# Altium integrated library Agilent Optoelectronic LED.IntLib: 357 symbols (part 4 of 6)
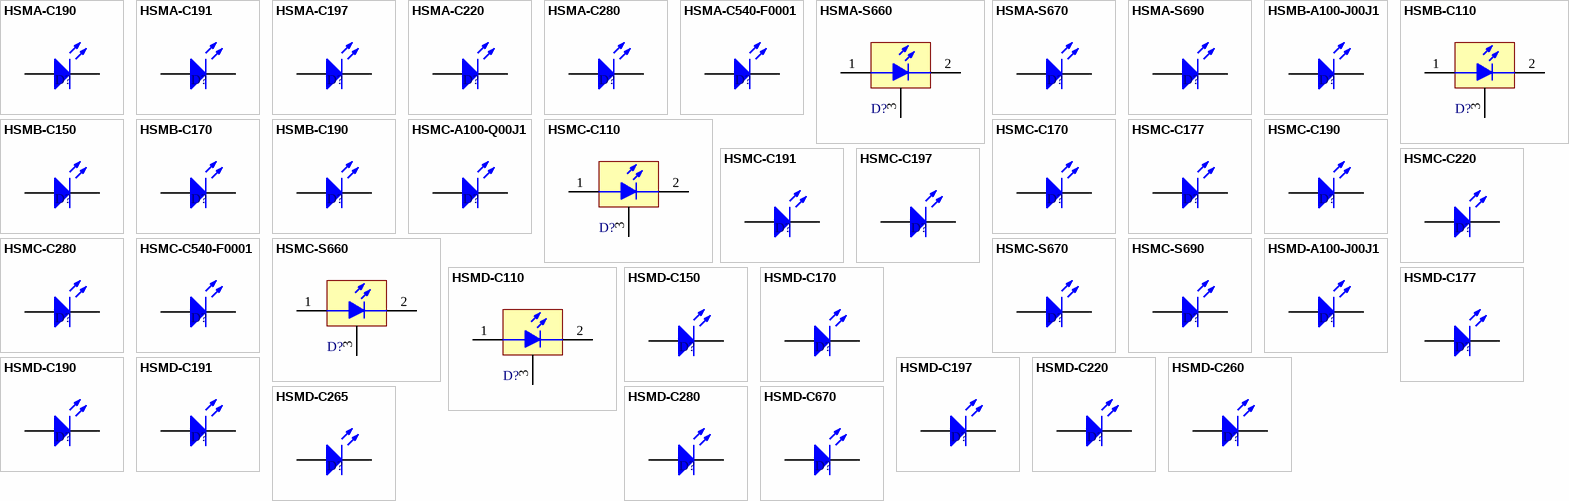
[diagram p11: symbols HSMA-C190 to HSMD-C670]

## HSMA-C190
designator D?
High Performance Chip LED, Amber; LuminousIntensity: 25mcd (Minimum).; PCB_Layout: Complies with manufacturer's recommendation.; Published: 11-Dec-2002; DatasheetDocument: 11-Mar-2002; PackageDocument: 11-Mar-2002; PackageReference: 1.6X0.8X0.8; Publisher: Altium Limited; LED_Colour: Amber; ComponentLink1Description: Manufacturer Link; ComponentLink1URL: http://www.agilent.com/; ComponentLink2Description: Datasheet; ComponentLink2URL: http://cp.literature.agilent.com/litweb/pdf/5988-5891EN.pdf
footprint 1.6X0.8X0.8 (SM LED; 2 Flat Leads)
simulation model Agl_HSMAC191 (Diode)
signal-integrity model LED
pins: 1 A, 2 K

## HSMA-C191
designator D?
High Performance Chip LED, Amber; LuminousIntensity: 25mcd (Minimum).; PCB_Layout: Complies with manufacturer's recommendation.; Published: 11-Dec-2002; DatasheetDocument: 11-Mar-2002; PackageDocument: 11-Mar-2002; PackageReference: 1.6X0.8X0.6; Publisher: Altium Limited; LED_Colour: Amber; ComponentLink1Description: Manufacturer Link; ComponentLink1URL: http://www.agilent.com/; ComponentLink2Description: Datasheet; ComponentLink2URL: http://cp.literature.agilent.com/litweb/pdf/5988-5891EN.pdf
footprint 1.6X0.8X0.6 (SM LED; 2 Flat Leads)
simulation model Agl_HSMAC191 (Diode)
signal-integrity model LED
pins: 1 A, 2 K

## HSMA-C197
designator D?
Low Profile Chip LED, Yellow; LuminousIntensity: 2.5mcd (Minimum).; PCB_Layout: Complies with manufacturer's recommendation.; Published: 11-Dec-2002; DatasheetDocument: 27-Jan-2002; PackageDocument: 27-Jan-2002; PackageReference: 1.6X0.8X0.4; Publisher: Altium Limited; LED_Colour: Yellow; ComponentLink1Description: Manufacturer Link; ComponentLink1URL: http://www.agilent.com/; ComponentLink2Description: Datasheet; ComponentLink2URL: http://cp.literature.agilent.com/litweb/pdf/5988-5501EN.pdf
footprint 1.6X0.8X0.4 (SM LED; 2 Flat Leads)
simulation model Agl_HSMAC177 (Diode)
signal-integrity model LED
pins: 1 A, 2 K

## HSMA-C220
designator D?
High Performance Chip LED, Amber; LuminousIntensity: 63mcd (Minimum).; PCB_Layout: Complies with manufacturer's recommendation.; Published: 11-Dec-2002; DatasheetDocument: 30-Apr-2002; PackageDocument: 30-Apr-2002; PackageReference: 2.0X1.25X1.2; Publisher: Altium Limited; LED_Colour: Amber; ComponentLink1Description: Manufacturer Link; ComponentLink1URL: http://www.agilent.com/; ComponentLink2Description: Datasheet; ComponentLink2URL: http://cp.literature.agilent.com/litweb/pdf/5988-6549EN.pdf
footprint 2.0X1.25X1.2 (SM LED; 2 Flat Leads)
simulation model Agl_HSMAC220 (Diode)
signal-integrity model LED
pins: 1 A, 2 K

## HSMA-C280
designator D?
Miniature Chip LED, Amber; LuminousIntensity: 25mcd (Minimum).; PCB_Layout: Complies with manufacturer's recommendation.; Published: 11-Dec-2002; DatasheetDocument: 7-Mar-2002; PackageDocument: 07-Mar-2002; PackageReference: 1.0X0.5X0.4; Publisher: Altium Limited; LED_Colour: Amber; ComponentLink1Description: Manufacturer Link; ComponentLink1URL: http://www.agilent.com/; ComponentLink2Description: Datasheet; ComponentLink2URL: http://cp.literature.agilent.com/litweb/pdf/5988-5890EN.pdf
footprint 1.0X0.5X0.4 (SM LED; 2 Flat Leads)
simulation model Agl_HSMAC177 (Diode)
signal-integrity model LED
pins: 1 A, 2 K

## HSMA-C540-F0001
designator D?
Top Mount AS AlInGaP Amber Oval Lens High Brightness; LuminousIntensity: 96mcd (Minimum).; PCB_Layout: Complies with manufacturer's recommendation.; Published: 11-Dec-2002; DatasheetDocument: 7-Mar-2002; PackageDocument: 30-Apr-2002; PackageReference: 2.0X1.25X1.2; Publisher: Altium Limited; LED_Colour: Amber; ComponentLink1Description: Manufacturer Link; ComponentLink1URL: http://www.agilent.com/; ComponentLink2Description: Datasheet; ComponentLink2URL: http://cp.literature.agilent.com/litweb/pdf/5988-5794EN.pdf
footprint 2.0X1.25X1.2 (SM LED; 2 Flat Leads)
simulation model Agl_HSMAC540 (Diode)
signal-integrity model LED
pins: 1 A, 2 K

## HSMA-S660
designator D?
Right Angle SMT Chip LED, Amber; LuminousIntensity: 16mcd (Minimum).; PCB_Layout: Complies with manufacturer's recommendation.; Published: 11-Dec-2002; DatasheetDocument: 29-Oct-2001; PackageDocument: 29-Oct-2001; PackageReference: NA; Publisher: Altium Limited; LED_Colour: Amber; ComponentLink1Description: Manufacturer Link; ComponentLink1URL: http://www.agilent.com/; ComponentLink2Description: Datasheet; ComponentLink2URL: http://cp.literature.agilent.com/litweb/pdf/5988-4445EN.pdf
footprint NA (SM Right-Angle Mount LED; 3 Leads)
simulation model Agl_HSMAC191 (Diode)
pins: 1 A, 2 K, 3 Mount

## HSMA-S670
designator D?
SMT Top Mount Chip LED, Amber; LuminousIntensity: 16mcd (Minimum).; PCB_Layout: Complies with manufacturer's recommendation.; Published: 11-Dec-2002; DatasheetDocument: 29-Oct-2001; PackageDocument: 29-Oct-2001; PackageReference: 2.0X1.25X0.8; Publisher: Altium Limited; LED_Colour: Amber; ComponentLink1Description: Manufacturer Link; ComponentLink1URL: http://www.agilent.com/; ComponentLink2Description: Datasheet; ComponentLink2URL: http://cp.literature.agilent.com/litweb/pdf/5988-4445EN.pdf
footprint 2.0X1.25X0.8 (SM LED; 2 Flat Leads)
simulation model Agl_HSMAC191 (Diode)
signal-integrity model LED
pins: 1 A, 2 K

## HSMA-S690
designator D?
SMT Top Mount Chip LED, Amber; LuminousIntensity: 16mcd (Minimum).; PCB_Layout: Complies with manufacturer's recommendation.; Published: 11-Dec-2002; DatasheetDocument: 29-Oct-2001; PackageDocument: 29-Oct-2001; PackageReference: 1.6X0.8X0.7; Publisher: Altium Limited; LED_Colour: Amber; ComponentLink1Description: Manufacturer Link; ComponentLink1URL: http://www.agilent.com/; ComponentLink2Description: Datasheet; ComponentLink2URL: http://cp.literature.agilent.com/litweb/pdf/5988-4445EN.pdf
footprint 1.6X0.8X0.7 (SM LED; 2 Flat Leads)
simulation model Agl_HSMAC191 (Diode)
signal-integrity model LED
pins: 1 A, 2 K

## HSMB-A100-J00J1
designator D?
Surface Mount LED Indicator, Blue; LuminousIntensity: 4mcd (Minimum).; PCB_Layout: Complies with manufacturer's recommendation.; Published: 11-Dec-2002; DatasheetDocument: 16-Apr-2002; PackageDocument: 16-Apr-2002; PackageReference: 3.5X2.8X1.9; Publisher: Altium Limited; LED_Colour: Blue; ComponentLink1Description: Manufacturer Link; ComponentLink1URL: http://www.agilent.com/; ComponentLink2Description: Datasheet; ComponentLink2URL: http://cp.literature.agilent.com/litweb/pdf/5988-6546EN.pdf
footprint 3.5X2.8X1.9 (SM LED; 2 C-Bend Leads; Body 3.5 x 2.8 x 1.9 mm, inc leads (LxWxH typ))
simulation model Agl_HSMBA100 (Diode)
signal-integrity model LED
pins: 1 A, 2 K

## HSMB-C110
designator D?
Blue Surface Mount Chip LED, Blue; LuminousIntensity: 1.6mcd (Minimum).; PCB_Layout: Complies with manufacturer's recommendation.; Published: 11-Dec-2002; DatasheetDocument: 26-Feb-2002; PackageDocument: 11-Mar-2002; PackageReference: 3.2X1.0X1.5; Publisher: Altium Limited; LED_Colour: Blue; ComponentLink1Description: Manufacturer Link; ComponentLink1URL: http://www.agilent.com/; ComponentLink2Description: Datasheet; ComponentLink2URL: http://cp.literature.agilent.com/litweb/pdf/5988-5211EN.pdf
footprint 3.2X1.0X1.5 (SM Right-Angle Mount LED; 3 Leads; Body 3.2 x 1.0 x 1.5 mm (LxWxH))
simulation model Agl_HSMBC110 (Diode)
pins: 1 A, 2 K, 3 Mount

## HSMB-C150
designator D?
Blue Surface Mount Chip LED, Blue; LuminousIntensity: 1.6mcd (Minimum).; PCB_Layout: Complies with manufacturer's recommendation.; Published: 11-Dec-2002; DatasheetDocument: 26-Feb-2002; PackageDocument: 26-Feb-2002; PackageReference: 3.2X1.6X1.1; Publisher: Altium Limited; LED_Colour: Blue; ComponentLink1Description: Manufacturer Link; ComponentLink1URL: http://www.agilent.com/; ComponentLink2Description: Datasheet; ComponentLink2URL: http://cp.literature.agilent.com/litweb/pdf/5988-5211EN.pdf
footprint 3.2X1.6X1.1 (SM LED; 2 Flat Leads)
simulation model Agl_HSMBC110 (Diode)
signal-integrity model LED
pins: 1 A, 2 K

## HSMB-C170
designator D?
Blue Surface Mount Chip LED, Blue; LuminousIntensity: 1.6mcd (Minimum).; PCB_Layout: Complies with manufacturer's recommendation.; Published: 11-Dec-2002; DatasheetDocument: 26-Feb-2002; PackageDocument: 29-Oct-2001; PackageReference: 2.0X1.25X0.8; Publisher: Altium Limited; LED_Colour: Blue; ComponentLink1Description: Manufacturer Link; ComponentLink1URL: http://www.agilent.com/; ComponentLink2Description: Datasheet; ComponentLink2URL: http://cp.literature.agilent.com/litweb/pdf/5988-5211EN.pdf
footprint 2.0X1.25X0.8 (SM LED; 2 Flat Leads)
simulation model Agl_HSMBC110 (Diode)
signal-integrity model LED
pins: 1 A, 2 K

## HSMB-C190
designator D?
Blue Surface Mount Chip LED, Blue; LuminousIntensity: 1.6mcd (Minimum).; PCB_Layout: Complies with manufacturer's recommendation.; Published: 11-Dec-2002; DatasheetDocument: 26-Feb-2002; PackageDocument: 11-Mar-2002; PackageReference: 1.6X0.8X0.8; Publisher: Altium Limited; LED_Colour: Blue; ComponentLink1Description: Manufacturer Link; ComponentLink1URL: http://www.agilent.com/; ComponentLink2Description: Datasheet; ComponentLink2URL: http://cp.literature.agilent.com/litweb/pdf/5988-5211EN.pdf
footprint 1.6X0.8X0.8 (SM LED; 2 Flat Leads)
simulation model Agl_HSMBC110 (Diode)
signal-integrity model LED
pins: 1 A, 2 K

## HSMC-A100-Q00J1
designator D?
Surface Mount LED Indicator, Red; LuminousIntensity: 63mcd (Minimum).; PCB_Layout: Complies with manufacturer's recommendation.; Published: 11-Dec-2002; DatasheetDocument: 16-Apr-2002; PackageDocument: 16-Apr-2002; PackageReference: 3.5X2.8X1.9; Publisher: Altium Limited; LED_Colour: Red; ComponentLink1Description: Manufacturer Link; ComponentLink1URL: http://www.agilent.com/; ComponentLink2Description: Datasheet; ComponentLink2URL: http://cp.literature.agilent.com/litweb/pdf/5988-6546EN.pdf
footprint 3.5X2.8X1.9 (SM LED; 2 C-Bend Leads; Body 3.5 x 2.8 x 1.9 mm, inc leads (LxWxH typ))
simulation model Agl_HSMAC191 (Diode)
signal-integrity model LED
pins: 1 A, 2 K

## HSMC-C110
designator D?
High Performance Chip LED, Red; LuminousIntensity: 25mcd (Minimum).; PCB_Layout: Complies with manufacturer's recommendation.; Published: 11-Dec-2002; DatasheetDocument: 11-Mar-2002; PackageDocument: 11-Mar-2002; PackageReference: 3.2X1.0X1.5; Publisher: Altium Limited; LED_Colour: Red; ComponentLink1Description: Manufacturer Link; ComponentLink1URL: http://www.agilent.com/; ComponentLink2Description: Datasheet; ComponentLink2URL: http://cp.literature.agilent.com/litweb/pdf/5988-5891EN.pdf
footprint 3.2X1.0X1.5 (SM Right-Angle Mount LED; 3 Leads; Body 3.2 x 1.0 x 1.5 mm (LxWxH))
simulation model Agl_HSMAC191 (Diode)
pins: 1 A, 2 K, 3 Mount

## HSMC-C170
designator D?
High Performance Chip LED, Red; LuminousIntensity: 25mcd (Minimum).; PCB_Layout: Complies with manufacturer's recommendation.; Published: 11-Dec-2002; DatasheetDocument: 11-Mar-2002; PackageDocument: 29-Oct-2001; PackageReference: 2.0X1.25X0.8; Publisher: Altium Limited; LED_Colour: Red; ComponentLink1Description: Manufacturer Link; ComponentLink1URL: http://www.agilent.com/; ComponentLink2Description: Datasheet; ComponentLink2URL: http://cp.literature.agilent.com/litweb/pdf/5988-5891EN.pdf
footprint 2.0X1.25X0.8 (SM LED; 2 Flat Leads)
simulation model Agl_HSMAC191 (Diode)
signal-integrity model LED
pins: 1 A, 2 K

## HSMC-C177
designator D?
Low Profile Chip LED, Red; LuminousIntensity: 25mcd (Minimum).; PCB_Layout: Complies with manufacturer's recommendation.; Published: 11-Dec-2002; DatasheetDocument: 27-Jan-2002; PackageDocument: 27-Jan-2002; PackageReference: 2.0X1.25X0.4; Publisher: Altium Limited; LED_Colour: Red; ComponentLink1Description: Manufacturer Link; ComponentLink1URL: http://www.agilent.com/; ComponentLink2Description: Datasheet; ComponentLink2URL: http://cp.literature.agilent.com/litweb/pdf/5988-5501EN.pdf
footprint 2.0X1.25X0.4 (SM LED; 2 Flat Leads)
simulation model Agl_HSMCC177 (Diode)
signal-integrity model LED
pins: 1 A, 2 K

## HSMC-C190
designator D?
High Performance Chip LED, Red; LuminousIntensity: 25mcd (Minimum).; PCB_Layout: Complies with manufacturer's recommendation.; Published: 11-Dec-2002; DatasheetDocument: 11-Mar-2002; PackageDocument: 11-Mar-2002; PackageReference: 1.6X0.8X0.8; Publisher: Altium Limited; LED_Colour: Red; ComponentLink1Description: Manufacturer Link; ComponentLink1URL: http://www.agilent.com/; ComponentLink2Description: Datasheet; ComponentLink2URL: http://cp.literature.agilent.com/litweb/pdf/5988-5891EN.pdf
footprint 1.6X0.8X0.8 (SM LED; 2 Flat Leads)
simulation model Agl_HSMAC191 (Diode)
signal-integrity model LED
pins: 1 A, 2 K

## HSMC-C191
designator D?
High Performance Chip LED, Red; LuminousIntensity: 25mcd (Minimum).; PCB_Layout: Complies with manufacturer's recommendation.; Published: 11-Dec-2002; DatasheetDocument: 11-Mar-2002; PackageDocument: 11-Mar-2002; PackageReference: 1.6X0.8X0.6; Publisher: Altium Limited; LED_Colour: Red; ComponentLink1Description: Manufacturer Link; ComponentLink1URL: http://www.agilent.com/; ComponentLink2Description: Datasheet; ComponentLink2URL: http://cp.literature.agilent.com/litweb/pdf/5988-5891EN.pdf
footprint 1.6X0.8X0.6 (SM LED; 2 Flat Leads)
simulation model Agl_HSMAC191 (Diode)
signal-integrity model LED
pins: 1 A, 2 K

## HSMC-C197
designator D?
Low Profile Chip LED, Red; LuminousIntensity: 25mcd (Minimum).; PCB_Layout: Complies with manufacturer's recommendation.; Published: 11-Dec-2002; DatasheetDocument: 27-Jan-2002; PackageDocument: 27-Jan-2002; PackageReference: 1.6X0.8X0.4; Publisher: Altium Limited; LED_Colour: Red; ComponentLink1Description: Manufacturer Link; ComponentLink1URL: http://www.agilent.com/; ComponentLink2Description: Datasheet; ComponentLink2URL: http://cp.literature.agilent.com/litweb/pdf/5988-5501EN.pdf
footprint 1.6X0.8X0.4 (SM LED; 2 Flat Leads)
simulation model Agl_HSMCC177 (Diode)
signal-integrity model LED
pins: 1 A, 2 K

## HSMC-C220
designator D?
High Performance Chip LED, Red; LuminousIntensity: 63mcd (Minimum).; PCB_Layout: Complies with manufacturer's recommendation.; Published: 11-Dec-2002; DatasheetDocument: 30-Apr-2002; PackageDocument: 30-Apr-2002; PackageReference: 2.0X1.25X1.2; Publisher: Altium Limited; LED_Colour: Red; ComponentLink1Description: Manufacturer Link; ComponentLink1URL: http://www.agilent.com/; ComponentLink2Description: Datasheet; ComponentLink2URL: http://cp.literature.agilent.com/litweb/pdf/5988-6549EN.pdf
footprint 2.0X1.25X1.2 (SM LED; 2 Flat Leads)
simulation model Agl_HSMAC220 (Diode)
signal-integrity model LED
pins: 1 A, 2 K

## HSMC-C280
designator D?
Miniature Chip LED, Red; LuminousIntensity: 25mcd (Minimum).; PCB_Layout: Complies with manufacturer's recommendation.; Published: 11-Dec-2002; DatasheetDocument: 7-Mar-2002; PackageDocument: 07-Mar-2002; PackageReference: 1.0X0.5X0.4; Publisher: Altium Limited; LED_Colour: Red; ComponentLink1Description: Manufacturer Link; ComponentLink1URL: http://www.agilent.com/; ComponentLink2Description: Datasheet; ComponentLink2URL: http://cp.literature.agilent.com/litweb/pdf/5988-5890EN.pdf
footprint 1.0X0.5X0.4 (SM LED; 2 Flat Leads)
simulation model Agl_HSMCC177 (Diode)
signal-integrity model LED
pins: 1 A, 2 K

## HSMC-C540-F0001
designator D?
Top Mount AS AlInGaP Red Oval Lens High Brightness; LuminousIntensity: 96mcd (Minimum).; PCB_Layout: Complies with manufacturer's recommendation.; Published: 11-Dec-2002; DatasheetDocument: 7-Mar-2002; PackageDocument: 30-Apr-2002; PackageReference: 2.0X1.25X1.2; Publisher: Altium Limited; LED_Colour: Red; ComponentLink1Description: Manufacturer Link; ComponentLink1URL: http://www.agilent.com/; ComponentLink2Description: Datasheet; ComponentLink2URL: http://cp.literature.agilent.com/litweb/pdf/5988-5794EN.pdf
footprint 2.0X1.25X1.2 (SM LED; 2 Flat Leads)
simulation model Agl_HSMAC540 (Diode)
signal-integrity model LED
pins: 1 A, 2 K

## HSMC-S660
designator D?
Right Angle SMT Chip LED, Red; LuminousIntensity: 16mcd (Minimum).; PCB_Layout: Complies with manufacturer's recommendation.; Published: 11-Dec-2002; DatasheetDocument: 29-Oct-2001; PackageDocument: 29-Oct-2001; PackageReference: 3.0X1.0X2.0W; Publisher: Altium Limited; LED_Colour: Red; ComponentLink1Description: Manufacturer Link; ComponentLink1URL: http://www.agilent.com/; ComponentLink2Description: Datasheet; ComponentLink2URL: http://cp.literature.agilent.com/litweb/pdf/5988-4445EN.pdf
footprint 3.0X1.0X2.0W (SM Right-Angle Mount LED; 3 Leads; Body 3.0 x 1.0 x 2.0 mm (LxWxH))
simulation model Agl_HSMAC191 (Diode)
pins: 1 A, 2 K, 3 Mount

## HSMC-S670
designator D?
SMT Top Mount Chip LED, Red; LuminousIntensity: 16mcd (Minimum).; PCB_Layout: Complies with manufacturer's recommendation.; Published: 11-Dec-2002; DatasheetDocument: 29-Oct-2001; PackageDocument: 29-Oct-2001; PackageReference: 2.0X1.25X0.8; Publisher: Altium Limited; LED_Colour: Red; ComponentLink1Description: Manufacturer Link; ComponentLink1URL: http://www.agilent.com/; ComponentLink2Description: Datasheet; ComponentLink2URL: http://cp.literature.agilent.com/litweb/pdf/5988-4445EN.pdf
footprint 2.0X1.25X0.8 (SM LED; 2 Flat Leads)
simulation model Agl_HSMAC191 (Diode)
signal-integrity model LED
pins: 1 A, 2 K

## HSMC-S690
designator D?
SMT Top Mount Chip LED, Red; LuminousIntensity: 16mcd (Minimum).; PCB_Layout: Complies with manufacturer's recommendation.; Published: 11-Dec-2002; DatasheetDocument: 29-Oct-2001; PackageDocument: 29-Oct-2001; PackageReference: 1.6X0.8X0.7; Publisher: Altium Limited; LED_Colour: Red; ComponentLink1Description: Manufacturer Link; ComponentLink1URL: http://www.agilent.com/; ComponentLink2Description: Datasheet; ComponentLink2URL: http://cp.literature.agilent.com/litweb/pdf/5988-4445EN.pdf
footprint 1.6X0.8X0.7 (SM LED; 2 Flat Leads)
simulation model Agl_HSMAC191 (Diode)
signal-integrity model LED
pins: 1 A, 2 K

## HSMD-A100-J00J1
designator D?
Surface Mount LED Indicator, Orange; LuminousIntensity: 4mcd (Minimum).; PCB_Layout: Complies with manufacturer's recommendation.; Published: 11-Dec-2002; DatasheetDocument: 16-Apr-2002; PackageDocument: 16-Apr-2002; PackageReference: 3.5X2.8X1.9; Publisher: Altium Limited; LED_Colour: Orange; ComponentLink1Description: Manufacturer Link; ComponentLink1URL: http://www.agilent.com/; ComponentLink2Description: Datasheet; ComponentLink2URL: http://cp.literature.agilent.com/litweb/pdf/5988-6546EN.pdf
footprint 3.5X2.8X1.9 (SM LED; 2 C-Bend Leads; Body 3.5 x 2.8 x 1.9 mm, inc leads (LxWxH typ))
simulation model Agl_HSMDC110 (Diode)
signal-integrity model LED
pins: 1 A, 2 K

## HSMD-C110
designator D?
Surface Mount Chip LED, Orange; LuminousIntensity: 2.5mcd (Minimum).; PCB_Layout: Complies with manufacturer's recommendation.; Published: 11-Dec-2002; DatasheetDocument: 30-Apr-2002; PackageDocument: 11-Mar-2002; PackageReference: 3.2X1.0X1.5; Publisher: Altium Limited; LED_Colour: Orange; ComponentLink1Description: Manufacturer Link; ComponentLink1URL: http://www.agilent.com/; ComponentLink2Description: Datasheet; ComponentLink2URL: http://cp.literature.agilent.com/litweb/pdf/5988-6271EN.pdf
footprint 3.2X1.0X1.5 (SM Right-Angle Mount LED; 3 Leads; Body 3.2 x 1.0 x 1.5 mm (LxWxH))
simulation model Agl_HSMDC110 (Diode)
pins: 1 A, 2 K, 3 Mount

## HSMD-C150
designator D?
Surface Mount Chip LED, Orange; LuminousIntensity: 2.5mcd (Minimum).; PCB_Layout: Complies with manufacturer's recommendation.; Published: 11-Dec-2002; DatasheetDocument: 30-Apr-2002; PackageDocument: 26-Feb-2002; PackageReference: 3.2X1.6X1.1; Publisher: Altium Limited; LED_Colour: Orange; ComponentLink1Description: Manufacturer Link; ComponentLink1URL: http://www.agilent.com/; ComponentLink2Description: Datasheet; ComponentLink2URL: http://cp.literature.agilent.com/litweb/pdf/5988-6271EN.pdf
footprint 3.2X1.6X1.1 (SM LED; 2 Flat Leads)
simulation model Agl_HSMDC110 (Diode)
signal-integrity model LED
pins: 1 A, 2 K

## HSMD-C170
designator D?
Surface Mount Chip LED, Orange; LuminousIntensity: 2.5mcd (Minimum).; PCB_Layout: Complies with manufacturer's recommendation.; Published: 11-Dec-2002; DatasheetDocument: 30-Apr-2002; PackageDocument: 29-Oct-2001; PackageReference: 2.0X1.25X0.8; Publisher: Altium Limited; LED_Colour: Orange; ComponentLink1Description: Manufacturer Link; ComponentLink1URL: http://www.agilent.com/; ComponentLink2Description: Datasheet; ComponentLink2URL: http://cp.literature.agilent.com/litweb/pdf/5988-6271EN.pdf
footprint 2.0X1.25X0.8 (SM LED; 2 Flat Leads)
simulation model Agl_HSMDC110 (Diode)
signal-integrity model LED
pins: 1 A, 2 K

## HSMD-C177
designator D?
Low Profile Chip LED, Orange; LuminousIntensity: 2.5mcd (Minimum).; PCB_Layout: Complies with manufacturer's recommendation.; Published: 11-Dec-2002; DatasheetDocument: 27-Jan-2002; PackageDocument: 27-Jan-2002; PackageReference: 2.0X1.25X0.4; Publisher: Altium Limited; LED_Colour: Orange; ComponentLink1Description: Manufacturer Link; ComponentLink1URL: http://www.agilent.com/; ComponentLink2Description: Datasheet; ComponentLink2URL: http://cp.literature.agilent.com/litweb/pdf/5988-5501EN.pdf
footprint 2.0X1.25X0.4 (SM LED; 2 Flat Leads)
simulation model Agl_HSMDC110 (Diode)
signal-integrity model LED
pins: 1 A, 2 K

## HSMD-C190
designator D?
Surface Mount Chip LED, Orange; LuminousIntensity: 2.5mcd (Minimum).; PCB_Layout: Complies with manufacturer's recommendation.; Published: 11-Dec-2002; DatasheetDocument: 30-Apr-2002; PackageDocument: 11-Mar-2002; PackageReference: 1.6X0.8X0.8; Publisher: Altium Limited; LED_Colour: Orange; ComponentLink1Description: Manufacturer Link; ComponentLink1URL: http://www.agilent.com/; ComponentLink2Description: Datasheet; ComponentLink2URL: http://cp.literature.agilent.com/litweb/pdf/5988-6271EN.pdf
footprint 1.6X0.8X0.8 (SM LED; 2 Flat Leads)
simulation model Agl_HSMDC110 (Diode)
signal-integrity model LED
pins: 1 A, 2 K

## HSMD-C191
designator D?
Low Profile Chip LED, Orange; LuminousIntensity: 2.5mcd (Minimum).; PCB_Layout: Complies with manufacturer's recommendation.; Published: 11-Dec-2002; DatasheetDocument: 16-Apr-2002; PackageDocument: 11-Mar-2002; PackageReference: 1.6X0.8X0.6; Publisher: Altium Limited; LED_Colour: Orange; ComponentLink1Description: Manufacturer Link; ComponentLink1URL: http://www.agilent.com/; ComponentLink2Description: Datasheet; ComponentLink2URL: http://cp.literature.agilent.com/litweb/pdf/5988-6172EN.pdf
footprint 1.6X0.8X0.6 (SM LED; 2 Flat Leads)
simulation model Agl_HSMDC110 (Diode)
signal-integrity model LED
pins: 1 A, 2 K

## HSMD-C197
designator D?
Low Profile Chip LED, Orange; LuminousIntensity: 2.5mcd (Minimum).; PCB_Layout: Complies with manufacturer's recommendation.; Published: 11-Dec-2002; DatasheetDocument: 27-Jan-2002; PackageDocument: 27-Jan-2002; PackageReference: 1.6X0.4X0.4; Publisher: Altium Limited; LED_Colour: Orange; ComponentLink1Description: Manufacturer Link; ComponentLink1URL: http://www.agilent.com/; ComponentLink2Description: Datasheet; ComponentLink2URL: http://cp.literature.agilent.com/litweb/pdf/5988-5501EN.pdf
footprint 1.6X0.4X0.4 (SM LED; 2 Flat Leads)
simulation model Agl_HSMDC110 (Diode)
signal-integrity model LED
pins: 1 A, 2 K

## HSMD-C220
designator D?
High Performance Chip LED, Orange; LuminousIntensity: 6.3mcd (Minimum).; PCB_Layout: Complies with manufacturer's recommendation.; Published: 11-Dec-2002; DatasheetDocument: 30-Apr-2002; PackageDocument: 30-Apr-2002; PackageReference: 2.0X1.25X1.2; Publisher: Altium Limited; LED_Colour: Orange; ComponentLink1Description: Manufacturer Link; ComponentLink1URL: http://www.agilent.com/; ComponentLink2Description: Datasheet; ComponentLink2URL: http://cp.literature.agilent.com/litweb/pdf/5988-6549EN.pdf
footprint 2.0X1.25X1.2 (SM LED; 2 Flat Leads)
simulation model Agl_HSMDC220 (Diode)
signal-integrity model LED
pins: 1 A, 2 K

## HSMD-C260
designator D?
Reverse Mount Chip LED, Orange; LuminousIntensity: 2.5mcd (Minimum).; PCB_Layout: Complies with manufacturer's recommendation.; DrillSize: Nominal, Rounded to nearest 0.05mm; Published: 11-Dec-2002; DatasheetDocument: 15-Apr-2002; PackageDocument: 15-Apr-2002; PackageReference: 3.4X1.25X1.1; Publisher: Altium Limited; LED_Colour: Orange; ComponentLink1Description: Manufacturer Link; ComponentLink1URL: http://www.agilent.com/; ComponentLink2Description: Datasheet; ComponentLink2URL: http://cp.literature.agilent.com/litweb/pdf/5988-6269EN.pdf
footprint 3.4X1.25X1.1 (SM Reverse Mount LED; 2 Flat Leads)
simulation model Agl_HSMYC110 (Diode)
signal-integrity model LED
pins: 1 A, 2 K

## HSMD-C265
designator D?
Reverse Mount Chip LED, Orange; LuminousIntensity: 2.5mcd (Minimum).; PCB_Layout: Complies with manufacturer's recommendation.; DrillSize: Nominal, Rounded to nearest 0.05mm; Published: 11-Dec-2002; DatasheetDocument: 18-Apr-2002; PackageDocument: 15-Apr-2002; PackageReference: 3.4X1.25X1.1; Publisher: Altium Limited; LED_Colour: Orange; ComponentLink1Description: Manufacturer Link; ComponentLink1URL: http://www.agilent.com/; ComponentLink2Description: Datasheet; ComponentLink2URL: http://cp.literature.agilent.com/litweb/pdf/5988-6270EN.pdf
footprint 3.4X1.25X1.1 (SM Reverse Mount LED; 2 Flat Leads)
simulation model Agl_HSMDC265 (Diode)
signal-integrity model LED
pins: 1 A, 2 K

## HSMD-C280
designator D?
Miniature Chip LED, Orange; LuminousIntensity: 2.5mcd (Minimum).; PCB_Layout: Complies with manufacturer's recommendation.; Published: 11-Dec-2002; DatasheetDocument: 7-Mar-2002; PackageDocument: 07-Mar-2002; PackageReference: 1.0X0.5X0.4; Publisher: Altium Limited; LED_Colour: Orange; ComponentLink1Description: Manufacturer Link; ComponentLink1URL: http://www.agilent.com/; ComponentLink2Description: Datasheet; ComponentLink2URL: http://cp.literature.agilent.com/litweb/pdf/5988-5890EN.pdf
footprint 1.0X0.5X0.4 (SM LED; 2 Flat Leads)
simulation model Agl_HSMDC110 (Diode)
signal-integrity model LED
pins: 1 A, 2 K

## HSMD-C670
designator D?
SMT Top Mount Chip LED, Orange; LuminousIntensity: 1.6mcd (Minimum).; PCB_Layout: Complies with manufacturer's recommendation.; Published: 11-Dec-2002; DatasheetDocument: 1-May-2002; PackageDocument: 01-May-2002; PackageReference: 2.0X1.25X1.1; Publisher: Altium Limited; LED_Colour: Orange; ComponentLink1Description: Manufacturer Link; ComponentLink1URL: http://www.agilent.com/; ComponentLink2Description: Datasheet; ComponentLink2URL: http://cp.literature.agilent.com/litweb/pdf/5988-2709EN.pdf
footprint 2.0X1.25X1.1 (SM LED; 2 Flat Leads)
simulation model Agl_HSMDC650 (Diode)
signal-integrity model LED
pins: 1 A, 2 K

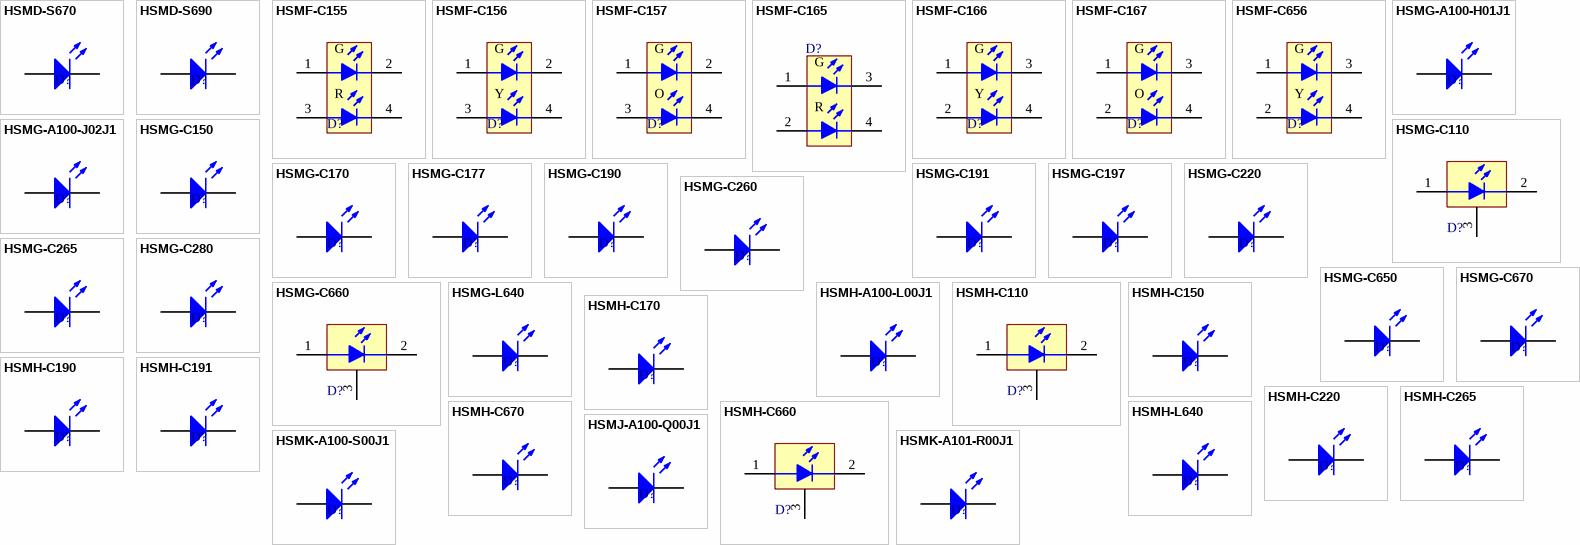
[diagram p6: symbols HSMD-S670 to HSMK-A101-R00J1]

## HSMD-S670
designator D?
High Performance SMT Chip LED, Orange; LuminousIntensity: 16mcd (Minimum).; PCB_Layout: Complies with manufacturer's recommendation.; Published: 11-Dec-2002; DatasheetDocument: 29-Oct-2001; PackageDocument: 29-Oct-2001; PackageReference: 2.0X1.25X0.8; Publisher: Altium Limited; LED_Colour: Orange; ComponentLink1Description: Manufacturer Link; ComponentLink1URL: http://www.agilent.com/; ComponentLink2Description: Datasheet; ComponentLink2URL: http://cp.literature.agilent.com/litweb/pdf/5988-4445EN.pdf
footprint 2.0X1.25X0.8 (SM LED; 2 Flat Leads)
simulation model Agl_HSMAC191 (Diode)
signal-integrity model LED
pins: 1 A, 2 K

## HSMD-S690
designator D?
High Performance SMT Chip LED, Orange; LuminousIntensity: 16mcd (Minimum).; PCB_Layout: Complies with manufacturer's recommendation.; Published: 11-Dec-2002; DatasheetDocument: 29-Oct-2001; PackageDocument: 29-Oct-2001; PackageReference: 1.6X0.8X0.7; Publisher: Altium Limited; LED_Colour: Orange; ComponentLink1Description: Manufacturer Link; ComponentLink1URL: http://www.agilent.com/; ComponentLink2Description: Datasheet; ComponentLink2URL: http://cp.literature.agilent.com/litweb/pdf/5988-4445EN.pdf
footprint 1.6X0.8X0.7 (SM LED; 2 Flat Leads)
simulation model Agl_HSMAC191 (Diode)
signal-integrity model LED
pins: 1 A, 2 K

## HSMF-C155
designator D?
Surface Mount Chip LED (Red/Green); LuminousIntensity: 4mcd (Minimum).; LED_Colour: Red & Green; PCB_Layout: Complies with manufacturer's recommendation.; Published: 11-Dec-2002; DatasheetDocument: 18-Apr-2002; PackageDocument: 18-Apr-2002; PackageReference: 3.2X2.7X1.1; Publisher: Altium Limited; ComponentLink1Description: Manufacturer Link; ComponentLink1URL: http://www.agilent.com/; ComponentLink2Description: Datasheet; ComponentLink2URL: http://cp.literature.agilent.com/litweb/pdf/5988-6268EN.pdf
footprint 3.2X2.7X1.1 (SM LED, Bi-Colour; 4 Flat Leads; Body 3.2 x 2.7 x 1.1 mm (LxWxH))
simulation model Agl_HSMFC155 (SUBCKT)
signal-integrity model Bicolour LED
pins: 1 A1, 2 K1, 3 A2, 4 K2
text: G; R

## HSMF-C156
designator D?
Surface Mount Chip LED (Yellow/Green); LuminousIntensity: 4mcd (Minimum).; LED_Colour: Yellow & Green; PCB_Layout: Complies with manufacturer's recommendation.; Published: 11-Dec-2002; DatasheetDocument: 18-Apr-2002; PackageDocument: 18-Apr-2002; PackageReference: 3.2X2.7X1.1; Publisher: Altium Limited; ComponentLink1Description: Manufacturer Link; ComponentLink1URL: http://www.agilent.com/; ComponentLink2Description: Datasheet; ComponentLink2URL: http://cp.literature.agilent.com/litweb/pdf/5988-6268EN.pdf
footprint 3.2X2.7X1.1 (SM LED, Bi-Colour; 4 Flat Leads; Body 3.2 x 2.7 x 1.1 mm (LxWxH))
simulation model Agl_HSMFC156 (SUBCKT)
pins: 1 A1, 2 K1, 3 A2, 4 K2
text: G; Y

## HSMF-C157
designator D?
Surface Mount Chip LED (Orange/Green); LuminousIntensity: 2.5mcd (Minimum).; LED_Colour: Orange & Green; PCB_Layout: Complies with manufacturer's recommendation.; Published: 11-Dec-2002; DatasheetDocument: 18-Apr-2002; PackageDocument: 18-Apr-2002; PackageReference: 3.2X2.7X1.1; Publisher: Altium Limited; ComponentLink1Description: Manufacturer Link; ComponentLink1URL: http://www.agilent.com/; ComponentLink2Description: Datasheet; ComponentLink2URL: http://cp.literature.agilent.com/litweb/pdf/5988-6268EN.pdf
footprint 3.2X2.7X1.1 (SM LED, Bi-Colour; 4 Flat Leads; Body 3.2 x 2.7 x 1.1 mm (LxWxH))
simulation model Agl_HSMFC157 (SUBCKT)
signal-integrity model Bicolour LED
pins: 1 A1, 2 K1, 3 A2, 4 K2
text: G; O

## HSMF-C165
designator D?
Miniature Bi-Colour Surface Mount Chip LED (Red/Green); LuminousIntensity: 2.5mcd (Minimum).; LED_Colour: Red & Green; PCB_Layout: Complies with manufacturer's recommendation.; Published: 11-Dec-2002; DatasheetDocument: 6-Apr-2002; PackageDocument: 06-Apr-2002; PackageReference: 1.6X0.8X0.5; Publisher: Altium Limited; ComponentLink1Description: Manufacturer Link; ComponentLink1URL: http://www.agilent.com/; ComponentLink2Description: Datasheet; ComponentLink2URL: http://cp.literature.agilent.com/litweb/pdf/5988-6146EN.pdf
footprint 1.6X0.8X0.5 (SM LED, Bi-Colour; 4 Flat Leads; Body 1.6 x 0.8 x 0.5 mm (LxWxH))
simulation model Agl_HSMFC155 (SUBCKT)
signal-integrity model Bicolour LED
pins: 1 A1, 2 A2, 3 K1, 4 K2
text: G; R

## HSMF-C166
designator D?
Miniature Bi-Colour Surface Mount Chip LED (Yellow/Green); LuminousIntensity: 2.5mcd (Minimum).; LED_Colour: Yellow & Green; PCB_Layout: Complies with manufacturer's recommendation.; Published: 11-Dec-2002; DatasheetDocument: 6-Apr-2002; PackageDocument: 06-Apr-2002; PackageReference: 1.6X0.8X0.5; Publisher: Altium Limited; ComponentLink1Description: Manufacturer Link; ComponentLink1URL: http://www.agilent.com/; ComponentLink2Description: Datasheet; ComponentLink2URL: http://cp.literature.agilent.com/litweb/pdf/5988-6146EN.pdf
footprint 1.6X0.8X0.5 (SM LED, Bi-Colour; 4 Flat Leads; Body 1.6 x 0.8 x 0.5 mm (LxWxH))
simulation model Agl_HSMFC156 (SUBCKT)
signal-integrity model Bicolour LED
pins: 1 A1, 2 A2, 3 K1, 4 K2
text: G; Y

## HSMF-C167
designator D?
Miniature Bi-Colour Surface Mount Chip LED (Orange/Green); LuminousIntensity: 2.5mcd (Minimum).; LED_Colour: Orange & Green; PCB_Layout: Complies with manufacturer's recommendation.; Published: 11-Dec-2002; DatasheetDocument: 6-Apr-2002; PackageDocument: 06-Apr-2002; PackageReference: 1.6X0.8X0.5; Publisher: Altium Limited; ComponentLink1Description: Manufacturer Link; ComponentLink1URL: http://www.agilent.com/; ComponentLink2Description: Datasheet; ComponentLink2URL: http://cp.literature.agilent.com/litweb/pdf/5988-6146EN.pdf
footprint 1.6X0.8X0.5 (SM LED, Bi-Colour; 4 Flat Leads; Body 1.6 x 0.8 x 0.5 mm (LxWxH))
simulation model Agl_HSMFC157 (SUBCKT)
signal-integrity model Bicolour LED
pins: 1 A1, 2 A2, 3 K1, 4 K2
text: G; O

## HSMF-C656
designator D?
SMT Bi-Colour Chip LED (Yellow/Green); LuminousIntensity: 1.6mcd (Minimum).; LED_Colour: Yellow & Green; PCB_Layout: Complies with manufacturer's recommendation.; Published: 11-Dec-2002; DatasheetDocument: 29-Oct-2001; PackageDocument: 29-Oct-2001; PackageReference: 3.2X2.7X1.1A; Publisher: Altium Limited; ComponentLink1Description: Manufacturer Link; ComponentLink1URL: http://www.agilent.com/; ComponentLink2Description: Datasheet; ComponentLink2URL: http://cp.literature.agilent.com/litweb/pdf/5988-4447EN.pdf
footprint 3.2X2.7X1.1A (SM LED, Bi-Colour; 4 Flat Leads; Body 3.2 x 2.7 x 1.1 mm (LxWxH))
simulation model Agl_HSMFC656 (SUBCKT)
signal-integrity model Bicolour LED
pins: 1 A1, 2 A2, 3 K1, 4 K2
text: G; Y

## HSMG-A100-H01J1
designator D?
Surface Mount LED Indicator, Green; LuminousIntensity: 4mcd (Minimum).; PCB_Layout: Complies with manufacturer's recommendation.; Published: 11-Dec-2002; DatasheetDocument: 16-Apr-2002; PackageDocument: 16-Apr-2002; PackageReference: 3.5X2.8X1.9; Publisher: Altium Limited; LED_Colour: Green; ComponentLink1Description: Manufacturer Link; ComponentLink1URL: http://www.agilent.com/; ComponentLink2Description: Datasheet; ComponentLink2URL: http://cp.literature.agilent.com/litweb/pdf/5988-6546EN.pdf
footprint 3.5X2.8X1.9 (SM LED; 2 C-Bend Leads; Body 3.5 x 2.8 x 1.9 mm, inc leads (LxWxH typ))
simulation model Agl_HSMDC110 (Diode)
signal-integrity model LED
pins: 1 A, 2 K

## HSMG-A100-J02J1
designator D?
Surface Mount LED Indicator, Green; LuminousIntensity: 4mcd (Minimum).; PCB_Layout: Complies with manufacturer's recommendation.; Published: 11-Dec-2002; DatasheetDocument: 16-Apr-2002; PackageDocument: 16-Apr-2002; PackageReference: 3.5X2.8X1.9; Publisher: Altium Limited; LED_Colour: Green; ComponentLink1Description: Manufacturer Link; ComponentLink1URL: http://www.agilent.com/; ComponentLink2Description: Datasheet; ComponentLink2URL: http://cp.literature.agilent.com/litweb/pdf/5988-6546EN.pdf
footprint 3.5X2.8X1.9 (SM LED; 2 C-Bend Leads; Body 3.5 x 2.8 x 1.9 mm, inc leads (LxWxH typ))
simulation model Agl_HSMDC110 (Diode)
signal-integrity model LED
pins: 1 A, 2 K

## HSMG-C110
designator D?
Surface Mount Chip LED, Green; LuminousIntensity: 4mcd (Minimum).; PCB_Layout: Complies with manufacturer's recommendation.; Published: 11-Dec-2002; DatasheetDocument: 30-Apr-2002; PackageDocument: 11-Mar-2002; PackageReference: 3.2X1.0X1.5; Publisher: Altium Limited; LED_Colour: Green; ComponentLink1Description: Manufacturer Link; ComponentLink1URL: http://www.agilent.com/; ComponentLink2Description: Datasheet; ComponentLink2URL: http://cp.literature.agilent.com/litweb/pdf/5988-6271EN.pdf
footprint 3.2X1.0X1.5 (SM Right-Angle Mount LED; 3 Leads; Body 3.2 x 1.0 x 1.5 mm (LxWxH))
simulation model Agl_HSMGC110 (Diode)
pins: 1 A, 2 K, 3 Mount

## HSMG-C150
designator D?
Surface Mount Chip LED, Green; LuminousIntensity: 4mcd (Minimum).; PCB_Layout: Complies with manufacturer's recommendation.; Published: 11-Dec-2002; DatasheetDocument: 30-Apr-2002; PackageDocument: 26-Feb-2002; PackageReference: 3.2X1.6X1.1; Publisher: Altium Limited; LED_Colour: Green; ComponentLink1Description: Manufacturer Link; ComponentLink1URL: http://www.agilent.com/; ComponentLink2Description: Datasheet; ComponentLink2URL: http://cp.literature.agilent.com/litweb/pdf/5988-6271EN.pdf
footprint 3.2X1.6X1.1 (SM LED; 2 Flat Leads)
simulation model Agl_HSMGC110 (Diode)
signal-integrity model LED
pins: 1 A, 2 K

## HSMG-C170
designator D?
Surface Mount Chip LED, Green; LuminousIntensity: 4mcd (Minimum).; PCB_Layout: Complies with manufacturer's recommendation.; Published: 11-Dec-2002; DatasheetDocument: 30-Apr-2002; PackageDocument: 29-Oct-2001; PackageReference: 2.0X1.25X0.8; Publisher: Altium Limited; LED_Colour: Green; ComponentLink1Description: Manufacturer Link; ComponentLink1URL: http://www.agilent.com/; ComponentLink2Description: Datasheet; ComponentLink2URL: http://cp.literature.agilent.com/litweb/pdf/5988-6271EN.pdf
footprint 2.0X1.25X0.8 (SM LED; 2 Flat Leads)
simulation model Agl_HSMGC110 (Diode)
signal-integrity model LED
pins: 1 A, 2 K

## HSMG-C177
designator D?
Low Profile Chip LED, Green; LuminousIntensity: 4mcd (Minimum).; PCB_Layout: Complies with manufacturer's recommendation.; Published: 11-Dec-2002; DatasheetDocument: 27-Jan-2002; PackageDocument: 27-Jan-2002; PackageReference: 2.0X1.25X0.4; Publisher: Altium Limited; LED_Colour: Green; ComponentLink1Description: Manufacturer Link; ComponentLink1URL: http://www.agilent.com/; ComponentLink2Description: Datasheet; ComponentLink2URL: http://cp.literature.agilent.com/litweb/pdf/5988-5501EN.pdf
footprint 2.0X1.25X0.4 (SM LED; 2 Flat Leads)
simulation model Agl_HSMGC110 (Diode)
signal-integrity model LED
pins: 1 A, 2 K

## HSMG-C190
designator D?
Surface Mount Chip LED, Green; LuminousIntensity: 4mcd (Minimum).; PCB_Layout: Complies with manufacturer's recommendation.; Published: 11-Dec-2002; DatasheetDocument: 30-Apr-2002; PackageDocument: 11-Mar-2002; PackageReference: 1.6X0.8X0.8; Publisher: Altium Limited; LED_Colour: Green; ComponentLink1Description: Manufacturer Link; ComponentLink1URL: http://www.agilent.com/; ComponentLink2Description: Datasheet; ComponentLink2URL: http://cp.literature.agilent.com/litweb/pdf/5988-6271EN.pdf
footprint 1.6X0.8X0.8 (SM LED; 2 Flat Leads)
simulation model Agl_HSMGC110 (Diode)
signal-integrity model LED
pins: 1 A, 2 K

## HSMG-C191
designator D?
Low Profile Chip LED, Green; LuminousIntensity: 4mcd (Minimum).; PCB_Layout: Complies with manufacturer's recommendation.; Published: 11-Dec-2002; DatasheetDocument: 16-Apr-2002; PackageDocument: 11-Mar-2002; PackageReference: 1.6X0.8X0.6; Publisher: Altium Limited; LED_Colour: Green; ComponentLink1Description: Manufacturer Link; ComponentLink1URL: http://www.agilent.com/; ComponentLink2Description: Datasheet; ComponentLink2URL: http://cp.literature.agilent.com/litweb/pdf/5988-6172EN.pdf
footprint 1.6X0.8X0.6 (SM LED; 2 Flat Leads)
simulation model Agl_HSMGC110 (Diode)
signal-integrity model LED
pins: 1 A, 2 K

## HSMG-C197
designator D?
Low Profile Chip LED, Green; LuminousIntensity: 4mcd (Minimum).; PCB_Layout: Complies with manufacturer's recommendation.; Published: 11-Dec-2002; DatasheetDocument: 27-Jan-2002; PackageDocument: 27-Jan-2002; PackageReference: 1.6X0.8X0.4; Publisher: Altium Limited; LED_Colour: Green; ComponentLink1Description: Manufacturer Link; ComponentLink1URL: http://www.agilent.com/; ComponentLink2Description: Datasheet; ComponentLink2URL: http://cp.literature.agilent.com/litweb/pdf/5988-5501EN.pdf
footprint 1.6X0.8X0.4 (SM LED; 2 Flat Leads)
simulation model Agl_HSMGC110 (Diode)
signal-integrity model LED
pins: 1 A, 2 K

## HSMG-C220
designator D?
High Performance Chip LED, Green; LuminousIntensity: 10mcd (Minimum).; PCB_Layout: Complies with manufacturer's recommendation.; Published: 11-Dec-2002; DatasheetDocument: 30-Apr-2002; PackageDocument: 30-Apr-2002; PackageReference: 2.0X1.25X1.2; Publisher: Altium Limited; LED_Colour: Green; ComponentLink1Description: Manufacturer Link; ComponentLink1URL: http://www.agilent.com/; ComponentLink2Description: Datasheet; ComponentLink2URL: http://cp.literature.agilent.com/litweb/pdf/5988-6549EN.pdf
footprint 2.0X1.25X1.2 (SM LED; 2 Flat Leads)
simulation model Agl_HSMDC110 (Diode)
signal-integrity model LED
pins: 1 A, 2 K

## HSMG-C260
designator D?
Reverse Mount Chip LED, Green; LuminousIntensity: 4mcd (Minimum).; PCB_Layout: Complies with manufacturer's recommendation.; DrillSize: Nominal, Rounded to nearest 0.05mm; Published: 11-Dec-2002; DatasheetDocument: 15-Apr-2002; PackageDocument: 15-Apr-2002; PackageReference: 3.4X1.25X1.1; Publisher: Altium Limited; LED_Colour: Green; ComponentLink1Description: Manufacturer Link; ComponentLink1URL: http://www.agilent.com/; ComponentLink2Description: Datasheet; ComponentLink2URL: http://cp.literature.agilent.com/litweb/pdf/5988-6269EN.pdf
footprint 3.4X1.25X1.1 (SM Reverse Mount LED; 2 Flat Leads)
simulation model Agl_HSMDC265 (Diode)
signal-integrity model LED
pins: 1 A, 2 K

## HSMG-C265
designator D?
Reverse Mount Chip LED, Green; LuminousIntensity: 4mcd (Minimum).; PCB_Layout: Complies with manufacturer's recommendation.; DrillSize: Nominal, Rounded to nearest 0.05mm; Published: 11-Dec-2002; DatasheetDocument: 18-Apr-2002; PackageDocument: 15-Apr-2002; PackageReference: 3.4X1.25X1.1; Publisher: Altium Limited; LED_Colour: Green; ComponentLink1Description: Manufacturer Link; ComponentLink1URL: http://www.agilent.com/; ComponentLink2Description: Datasheet; ComponentLink2URL: http://cp.literature.agilent.com/litweb/pdf/5988-6270EN.pdf
footprint 3.4X1.25X1.1 (SM Reverse Mount LED; 2 Flat Leads)
simulation model Agl_HSMDC265 (Diode)
signal-integrity model LED
pins: 1 A, 2 K

## HSMG-C280
designator D?
Miniature Chip LED, Green; LuminousIntensity: 4mcd (Minimum).; PCB_Layout: Complies with manufacturer's recommendation.; Published: 11-Dec-2002; DatasheetDocument: 7-Mar-2002; PackageDocument: 07-Mar-2002; PackageReference: 1.0X0.5X0.4; Publisher: Altium Limited; LED_Colour: Green; ComponentLink1Description: Manufacturer Link; ComponentLink1URL: http://www.agilent.com/; ComponentLink2Description: Datasheet; ComponentLink2URL: http://cp.literature.agilent.com/litweb/pdf/5988-5890EN.pdf
footprint 1.0X0.5X0.4 (SM LED; 2 Flat Leads)
simulation model Agl_HSMGC110 (Diode)
signal-integrity model LED
pins: 1 A, 2 K

## HSMG-C650
designator D?
SMT Top Mount Chip LED, Green; LuminousIntensity: 4mcd (Minimum).; PCB_Layout: Complies with manufacturer's recommendation.; Published: 11-Dec-2002; DatasheetDocument: 1-May-2002; PackageDocument: 26-Feb-2002; PackageReference: 3.2X1.6X1.1; Publisher: Altium Limited; LED_Colour: Green; ComponentLink1Description: Manufacturer Link; ComponentLink1URL: http://www.agilent.com/; ComponentLink2Description: Datasheet; ComponentLink2URL: http://cp.literature.agilent.com/litweb/pdf/5988-2709EN.pdf
footprint 3.2X1.6X1.1 (SM LED; 2 Flat Leads)
simulation model Agl_HSMGC650 (Diode)
signal-integrity model LED
pins: 1 A, 2 K

## HSMG-C660
designator D?
Right Angle SMT Chip LED, Green; LuminousIntensity: 4mcd (Minimum).; PCB_Layout: Complies with manufacturer's recommendation.; Published: 11-Dec-2002; DatasheetDocument: 19-Oct-2001; PackageDocument: 29-Oct-2001; PackageReference: 3.0X1.0X2.0W; Publisher: Altium Limited; LED_Colour: Green; ComponentLink1Description: Manufacturer Link; ComponentLink1URL: http://www.agilent.com/; ComponentLink2Description: Datasheet; ComponentLink2URL: http://cp.literature.agilent.com/litweb/pdf/5988-4446EN.pdf
footprint 3.0X1.0X2.0W (SM Right-Angle Mount LED; 3 Leads; Body 3.0 x 1.0 x 2.0 mm (LxWxH))
simulation model Agl_HSMGC650 (Diode)
pins: 1 A, 2 K, 3 Mount

## HSMG-C670
designator D?
SMT Top Mount Chip LED, Green; LuminousIntensity: 4mcd (Minimum).; PCB_Layout: Complies with manufacturer's recommendation.; Published: 11-Dec-2002; DatasheetDocument: 1-May-2002; PackageDocument: 01-May-2002; PackageReference: 2.0X1.25X1.1; Publisher: Altium Limited; LED_Colour: Green; ComponentLink1Description: Manufacturer Link; ComponentLink1URL: http://www.agilent.com/; ComponentLink2Description: Datasheet; ComponentLink2URL: http://cp.literature.agilent.com/litweb/pdf/5988-2709EN.pdf
footprint 2.0X1.25X1.1 (SM LED; 2 Flat Leads)
simulation model Agl_HSMGC650 (Diode)
signal-integrity model LED
pins: 1 A, 2 K

## HSMG-L640
designator D?
SMT Top Mount Chip LED, Green; LuminousIntensity: 10mcd (Minimum).; PCB_Layout: Complies with manufacturer's recommendation.; Published: 11-Dec-2002; DatasheetDocument: 3-May-2002; PackageDocument: 03-May-2002; PackageReference: 3.0X1.5X1.5; Publisher: Altium Limited; LED_Colour: Green; ComponentLink1Description: Manufacturer Link; ComponentLink1URL: http://www.agilent.com/; ComponentLink2Description: Datasheet; ComponentLink2URL: http://cp.literature.agilent.com/litweb/pdf/5988-6273EN.pdf
footprint 3.0X1.5X1.5 (SM LED; 2 Flat Leads)
simulation model Agl_HSMGC650 (Diode)
signal-integrity model LED
pins: 1 A, 2 K

## HSMH-A100-L00J1
designator D?
Surface Mount LED Indicator, Red; LuminousIntensity: 10mcd (Minimum).; PCB_Layout: Complies with manufacturer's recommendation.; Published: 11-Dec-2002; DatasheetDocument: 16-Apr-2002; PackageDocument: 16-Apr-2002; PackageReference: 3.5X2.8X1.9; Publisher: Altium Limited; LED_Colour: Red; ComponentLink1Description: Manufacturer Link; ComponentLink1URL: http://www.agilent.com/; ComponentLink2Description: Datasheet; ComponentLink2URL: http://cp.literature.agilent.com/litweb/pdf/5988-6546EN.pdf
footprint 3.5X2.8X1.9 (SM LED; 2 C-Bend Leads; Body 3.5 x 2.8 x 1.9 mm, inc leads (LxWxH typ))
simulation model Agl_HSMAC191 (Diode)
signal-integrity model LED
pins: 1 A, 2 K

## HSMH-C110
designator D?
Surface Mount Chip LED, Red; LuminousIntensity: 6.3mcd (Minimum).; PCB_Layout: Complies with manufacturer's recommendation.; Note: Anode mark shown on package.; Published: 11-Dec-2002; DatasheetDocument: 30-Apr-2002; PackageDocument: 11-Mar-2002; PackageReference: 3.2X1.0X1.5; Publisher: Altium Limited; LED_Colour: Red; ComponentLink1Description: Manufacturer Link; ComponentLink1URL: http://www.agilent.com/; ComponentLink2Description: Datasheet; ComponentLink2URL: http://cp.literature.agilent.com/litweb/pdf/5988-6271EN.pdf
footprint 3.2X1.0X1.5 (SM Right-Angle Mount LED; 3 Leads; Body 3.2 x 1.0 x 1.5 mm (LxWxH))
simulation model Agl_HSMHC110 (Diode)
pins: 1 A, 2 K, 3 Mount

## HSMH-C150
designator D?
Surface Mount Chip LED, Red; LuminousIntensity: 6.3mcd (Minimum).; PCB_Layout: Complies with manufacturer's recommendation.; Note: Anode mark shown on package.; Published: 11-Dec-2002; DatasheetDocument: 30-Apr-2002; PackageDocument: 26-Feb-2002; PackageReference: 3.2X1.6X1.1; Publisher: Altium Limited; LED_Colour: Red; ComponentLink1Description: Manufacturer Link; ComponentLink1URL: http://www.agilent.com/; ComponentLink2Description: Datasheet; ComponentLink2URL: http://cp.literature.agilent.com/litweb/pdf/5988-6271EN.pdf
footprint 3.2X1.6X1.1 (SM LED; 2 Flat Leads)
simulation model Agl_HSMHC110 (Diode)
signal-integrity model LED
pins: 1 A, 2 K

## HSMH-C170
designator D?
Surface Mount Chip LED, Red; LuminousIntensity: 6.3mcd (Minimum).; PCB_Layout: Complies with manufacturer's recommendation.; Note: Anode mark shown on package.; Published: 11-Dec-2002; DatasheetDocument: 30-Apr-2002; PackageDocument: 29-Oct-2001; PackageReference: 2.0X1.25X0.8; Publisher: Altium Limited; LED_Colour: Red; ComponentLink1Description: Manufacturer Link; ComponentLink1URL: http://www.agilent.com/; ComponentLink2Description: Datasheet; ComponentLink2URL: http://cp.literature.agilent.com/litweb/pdf/5988-6271EN.pdf
footprint 2.0X1.25X0.8 (SM LED; 2 Flat Leads)
simulation model Agl_HSMHC110 (Diode)
signal-integrity model LED
pins: 1 A, 2 K

## HSMH-C190
designator D?
Surface Mount Chip LED, Red; LuminousIntensity: 6.3mcd (Minimum).; PCB_Layout: Complies with manufacturer's recommendation.; Note: Anode mark shown on package.; Published: 11-Dec-2002; DatasheetDocument: 30-Apr-2002; PackageDocument: 11-Mar-2002; PackageReference: 1.6X0.8X0.8; Publisher: Altium Limited; LED_Colour: Red; ComponentLink1Description: Manufacturer Link; ComponentLink1URL: http://www.agilent.com/; ComponentLink2Description: Datasheet; ComponentLink2URL: http://cp.literature.agilent.com/litweb/pdf/5988-6271EN.pdf
footprint 1.6X0.8X0.8 (SM LED; 2 Flat Leads)
simulation model Agl_HSMHC110 (Diode)
signal-integrity model LED
pins: 1 A, 2 K

## HSMH-C191
designator D?
Low Profile Chip LED, Red; LuminousIntensity: 6.3mcd (Minimum).; PCB_Layout: Complies with manufacturer's recommendation.; Note: Polarity Reversed.; Published: 11-Dec-2002; DatasheetDocument: 16-Apr-2002; PackageDocument: 11-Mar-2002; PackageReference: 1.6X0.8X0.6; Publisher: Altium Limited; LED_Colour: Red; ComponentLink1Description: Manufacturer Link; ComponentLink1URL: http://www.agilent.com/; ComponentLink2Description: Datasheet; ComponentLink2URL: http://cp.literature.agilent.com/litweb/pdf/5988-6172EN.pdf
footprint 1.6X0.8X0.6 (SM LED; 2 Flat Leads)
simulation model Agl_HSMHC110 (Diode)
signal-integrity model LED
pins: 1 A, 2 K

## HSMH-C220
designator D?
High Performance Chip LED, Red; LuminousIntensity: 25mcd (Minimum).; PCB_Layout: Complies with manufacturer's recommendation.; Published: 11-Dec-2002; DatasheetDocument: 30-Apr-2002; PackageDocument: 30-Apr-2002; PackageReference: 2.0X1.25X1.2; Publisher: Altium Limited; LED_Colour: Red; ComponentLink1Description: Manufacturer Link; ComponentLink1URL: http://www.agilent.com/; ComponentLink2Description: Datasheet; ComponentLink2URL: http://cp.literature.agilent.com/litweb/pdf/5988-6549EN.pdf
footprint 2.0X1.25X1.2 (SM LED; 2 Flat Leads)
simulation model Agl_HSMHC220 (Diode)
signal-integrity model LED
pins: 1 A, 2 K

## HSMH-C265
designator D?
Reverse Mount Chip LED, Red; LuminousIntensity: 6.3mcd (Minimum).; PCB_Layout: Complies with manufacturer's recommendation.; DrillSize: Nominal, Rounded to nearest 0.05mm; Note: Anode mark shown on package.; Published: 11-Dec-2002; DatasheetDocument: 18-Apr-2002; PackageDocument: 15-Apr-2002; PackageReference: 3.4X1.25X1.1; Publisher: Altium Limited; LED_Colour: Red; ComponentLink1Description: Manufacturer Link; ComponentLink1URL: http://www.agilent.com/; ComponentLink2Description: Datasheet; ComponentLink2URL: http://cp.literature.agilent.com/litweb/pdf/5988-6270EN.pdf
footprint 3.4X1.25X1.1 (SM Reverse Mount LED; 2 Flat Leads)
simulation model Agl_HSMHC110 (Diode)
signal-integrity model LED
pins: 1 A, 2 K